# Altium footprint library EL.XXX.T01.PcbLib: 92 footprints (part 3 of 6)
Each footprint in its own frame and in the unit in brackets; x right, y up, seen from the top. Pads: shape width x height; smd on the part's side, far side on the other; paste and mask are expansions set on the pad; w line width, h text height; cw(c..) or ccw(c..) is an arc to the next point about the centre after c.
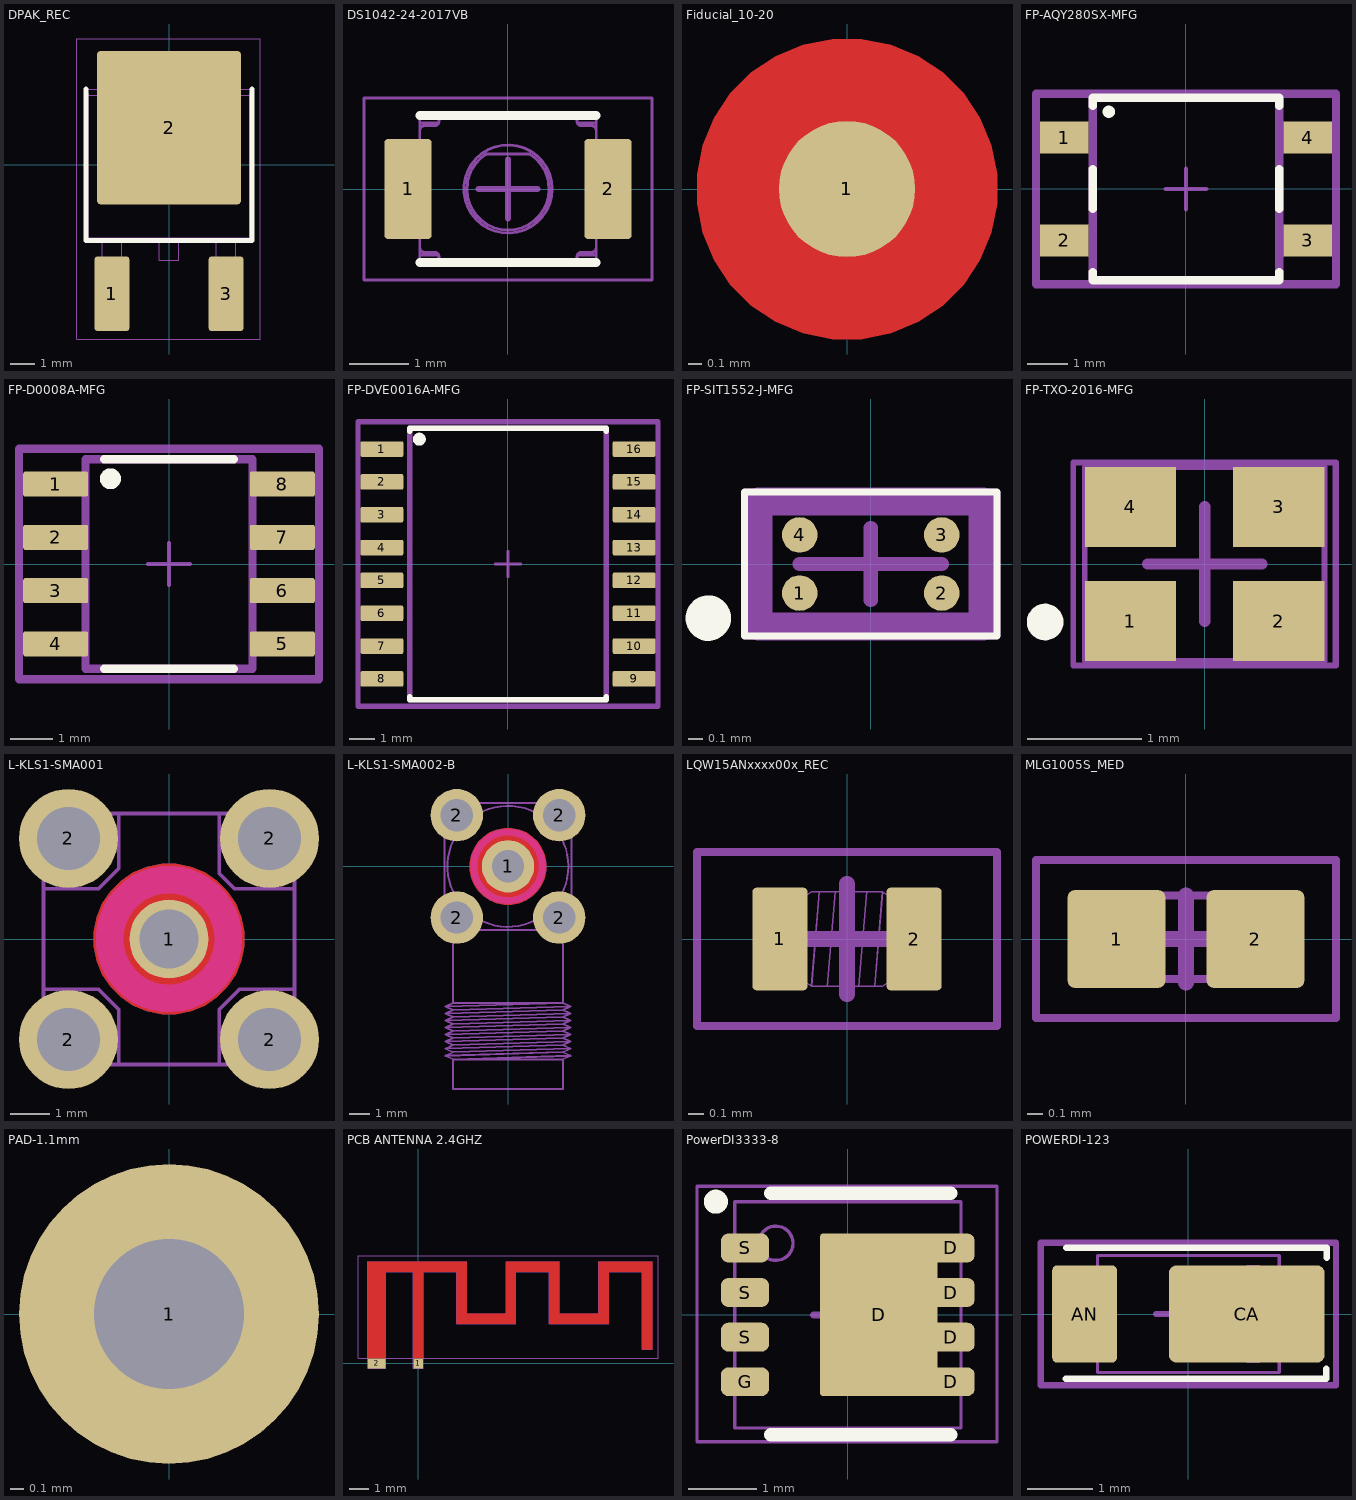
[diagram p2: the footprints below, top view; thin cyan lines are the x and y axes]

## DPAK_REC [mm]
pads (3):
  rrect15% 1.4x3 smd mask+0.05: 1(-2.3,-5.2) 3(2.3,-5.2)
  rrect5% 5.8x6.2 smd paste-3.1 mask+0.05: 2(0,1.5)
Top Overlay:
  lines w0.2: -3.35,3.05 -3.35,-3.05 3.35,-3.05 3.35,3.05
Top Paste:
  rectangle: 1.575,-1.4 2.725,0.2
  rectangle: 1.575,2.8 2.725,4.4
  rectangle: 1.575,0.5 2.725,2.5
  rectangle: 0.125,-1.4 1.275,0.2
  rectangle: 0.125,2.8 1.275,4.4
  rectangle: 0.125,0.5 1.275,2.5
  rectangle: -1.275,-1.4 -0.125,0.2
  rectangle: -1.275,2.8 -0.125,4.4
  rectangle: -1.275,0.5 -0.125,2.5
  rectangle: -2.725,-1.4 -1.575,0.2
  rectangle: -2.725,2.8 -1.575,4.4
  rectangle: -2.725,0.5 -1.575,2.5
Top Courtyard:
  lines w0.05: -3.725,-7.025 -3.725,5.075 3.675,5.075 3.675,-7.025 -3.725,-7.025
  lines w0.1: -0.5,0 0.5,0 ; 0,-0.5 0,0.5
Top Designator:
  text ".Designator" at -1.7,6.35 h0.5
Top Assembly:
  lines w0.05: -2.7,-3.05 -2.7,-4.25 -2.8,-4.25 -2.8,-5.15 -2.7,-5.15 -2.7,-5.95 -1.9,-5.95 -1.9,-5.15 -1.8,-5.15 -1.8,-4.25 -1.9,-4.25 -1.9,-3.05 ; -2.6,3.05 -2.6,3.4 -2.35,4.2 2.35,4.2 2.6,3.4 2.6,3.05 ; -0.4,-3.05 -0.4,-3.85 0.4,-3.85 0.4,-3.05 ; 1.9,-3.05 1.9,-4.25 1.8,-4.25 1.8,-5.15 1.9,-5.15 1.9,-5.95 2.7,-5.95 2.7,-5.15 2.8,-5.15 2.8,-4.25 2.7,-4.25 2.7,-3.05 ; -3.35,-3.05 -3.35,3.05 ; -3.35,-3.05 3.35,-3.05 ; -3.35,-3.05 -3.25,-2.95 ; -3.35,3.05 3.35,3.05 ; -3.35,3.05 -3.25,2.8 ; -3.25,-2.95 -3.25,2.8 ; -3.25,-2.95 3.25,-2.95 ; -3.25,2.8 3.25,2.8 ; 3.25,-2.95 3.25,2.8 ; 3.25,-2.95 3.35,-3.05 ; 3.25,2.8 3.35,3.05 ; 3.35,-3.05 3.35,3.05
  text "4" at -0.25,1.85 h0.7
  text "3" at 2.05,-2.6 h0.7
  text "1" at -2.4,-2.6 h0.7
Top Value:
  text ".Comment" at -1.7,5.725 h0.5
3D body "DPAK.STEP": height 2.3, standoff 0, extent -3.246,-5.55 3.247,3.95

## DS1042-24-2017VB [mm]
pads (2):
  rrect15% 0.8x1.7 smd mask+0.05: 1(-1.7,0) 2(1.7,0)
Top Overlay:
  lines w0.15: -1.5,-1.25 1.5,-1.25 ; -1.5,1.25 1.5,1.25
Top Courtyard:
  lines w0.05: -2.45,-1.55 -2.45,1.55 2.45,1.55 2.45,-1.55 -2.45,-1.55
  lines w0.1: -0.5,0 0.5,0 ; 0,-0.5 0,0.5
Top Designator:
  text ".Designator" at -1.7,2.3 h0.5
Top Assembly:
  circle w0.05: c0,0 r0.75
  lines w0.05: -1.5,-1.125 -1.2,-1.125 ; -1.5,-1 ccw(c-1.425,-1) -1.425,-1.075 -1.25,-1.075 cw(c-1.25,-1.15) -1.175,-1.15 -1.175,-1.25 ; -1.5,-0.7 -2,-0.7 -2,0.7 -1.5,0.7 ; -1.5,1 cw(c-1.425,1) -1.425,1.075 -1.25,1.075 ccw(c-1.25,1.15) -1.175,1.15 -1.175,1.25 ; -1.5,1.125 -1.2,1.125 ; 1.175,-1.25 1.175,-1.15 cw(c1.25,-1.15) 1.25,-1.075 1.425,-1.075 ccw(c1.425,-1) 1.5,-1 ; 1.175,1.25 1.175,1.15 ccw(c1.25,1.15) 1.25,1.075 1.425,1.075 cw(c1.425,1) 1.5,1 ; 1.2,-1.125 1.5,-1.125 ; 1.2,1.125 1.5,1.125 ; 1.5,-0.7 2,-0.7 2,0.7 1.5,0.7 ; -1.5,-1.25 -1.5,1.25 1.5,1.25 1.5,-1.25 -1.5,-1.25 ; -0.371,0.594 ccw(c0,0) 0.371,0.594 -0.371,0.594
Top Value:
  text ".Comment" at -1.7,1.7 h0.5
3D body "SW_TACT_DS1042-24-X-017-.STEP": height 1.6, standoff 0, extent -2,-1.25 2,1.25

## Fiducial_10-20 [mm]
pads (1):
  round 1 smd paste-1 mask+0.5: 1(0,0)
Top Layer:
  pour cut-out: -1.1,0 -1.1,-0.108 -1.058,-0.321 -0.975,-0.521 -0.854,-0.701 -0.701,-0.854 -0.521,-0.975 -0.321,-1.058 -0.108,-1.1 0,-1.1 0.108,-1.1 0.321,-1.058 0.521,-0.975 0.701,-0.854 0.854,-0.701 0.975,-0.521 1.058,-0.321 1.1,-0.108 1.1,0 1.1,0.108 1.058,0.321 0.975,0.521 0.854,0.701 0.701,0.854 0.521,0.975 0.321,1.058 0.108,1.1 0,1.1 -0.108,1.1 -0.321,1.058 -0.521,0.975 -0.701,0.854 -0.854,0.701 -0.975,0.521 -1.058,0.321 -1.1,0.108

## FP-AQY280SX-MFG [mm]
pads (4):
  rect 1.2x0.8 smd paste+0 mask+0: 1(-3,1.27) 2(-3,-1.27) 3(3,-1.27) 4(3,1.27)
Top Overlay:
  circle w0.152: c-1.905,1.905 r0.076
  lines w0.2: -2.3,-2.045 -2.3,-2.25 2.3,-2.25 2.3,-2.045 ; -2.3,-0.495 -2.3,0.495 ; -2.3,2.045 -2.3,2.25 2.3,2.25 2.3,2.045 ; 2.3,-0.495 2.3,0.495
Top 3D Body:
  lines w0.2: -2.3,-2.25 2.3,-2.25 2.3,2.25 -2.3,2.25 -2.3,-2.25
Top Courtyard:
  lines w0.2: -3.7,-2.35 3.7,-2.35 3.7,2.35 -3.7,2.35 -3.7,-2.35
Top Assembly:
  lines w0.2: -3.7,-2.35 -3.7,2.35 3.7,2.35 3.7,-2.35 -3.7,-2.35
  text ".Designator" at -4.699,-0.066 h1
Top Component Center:
  lines w0.1: -0.5,0 0.5,0 ; 0,-0.5 0,0.5
3D body "Relay_Panasonic_AQY280SX_eec.STEP": height 0.25, standoff 0, extent -3.7,-2.35 3.7,2.35

## FP-D0008A-MFG [mm]
pads (8):
  rrect17% 1.55x0.6 smd paste+0 mask+0: 1(-2.7,1.905) 2(-2.7,0.635) 3(-2.7,-0.635) 4(-2.7,-1.905) 5(2.7,-1.905) 6(2.7,-0.635) 7(2.7,0.635) 8(2.7,1.905)
Top Overlay:
  circle w0.25: c-1.397,2.032 r0.125
  lines w0.2: -1.55,-2.5 1.55,-2.5 ; -1.55,2.5 1.55,2.5
Top 3D Body:
  lines w0.2: -1.99,-2.5 1.99,-2.5 1.99,2.5 -1.99,2.5 -1.99,-2.5
Top Courtyard:
  lines w0.2: -3.575,-2.75 3.575,-2.75 3.575,2.75 -3.575,2.75 -3.575,-2.75
Top Assembly:
  lines w0.2: -3.575,-2.75 3.575,-2.75 3.575,2.75 -3.575,2.75 -3.575,-2.75
  text ".Designator" at 0,0.188 h1
Top Component Center:
  lines w0.1: -0.5,0 0.5,0 ; 0,-0.5 0,0.5
3D body "IC_Texas_Instruments_ISO1540DR_eec.STEP": height 0.25, standoff 0, extent -3.575,-2.75 3.575,2.75

## FP-DVE0016A-MFG [mm]
pads (16):
  rrect17% 1.65x0.6 smd paste+0 mask+0: 1(-4.875,4.445) 2(-4.875,3.175) 3(-4.875,1.905) 4(-4.875,0.635) 5(-4.875,-0.635) 6(-4.875,-1.905) 7(-4.875,-3.175) 8(-4.875,-4.445) 9(4.875,-4.445) 10(4.875,-3.175) 11(4.875,-1.905) 12(4.875,-0.635) 13(4.875,0.635) 14(4.875,1.905) 15(4.875,3.175) 16(4.875,4.445)
Top Overlay:
  circle w0.25: c-3.429,4.826 r0.125
  lines w0.2: -3.8,-5.12 -3.8,-5.25 3.8,-5.25 3.8,-5.12 ; -3.8,5.12 -3.8,5.25 3.8,5.25 3.8,5.12
Top 3D Body:
  lines w0.2: -3.8,-5.25 -3.8,5.25 3.8,5.25 3.8,-5.25 -3.8,-5.25
Top Courtyard:
  lines w0.2: -5.8,-5.5 -5.8,5.5 5.8,5.5 5.8,-5.5 -5.8,-5.5
Top Assembly:
  lines w0.2: -5.8,-5.5 -5.8,5.5 5.8,5.5 5.8,-5.5 -5.8,-5.5
  text ".Designator" at 0,0.188 h1
Top Component Center:
  lines w0.1: -0.5,0 0.5,0 ; 0,-0.5 0,0.5
3D body "IC_Texas_Instruments_UCC12040DVER_eec.STEP": height 0.25, standoff 0, extent -5.8,-5.5 5.8,5.5

## FP-SIT1552-J-MFG [mm]
pads (4):
  round 0.25 smd paste+0 mask-1000: 1(-0.5,-0.205) 2(0.5,-0.205) 3(0.5,0.205) 4(-0.5,0.205)
Top Overlay:
  circle w0.16: c-1.143,-0.381 r0.08
  lines w0.05: -0.889,-0.508 0.889,-0.508 0.889,0.508 -0.889,0.508 -0.889,-0.508
Top Solder:
  circle w0.175: c-0.5,-0.205 r0.088
  circle w0.175: c0.5,-0.205 r0.088
  circle w0.175: c-0.5,0.205 r0.088
  circle w0.175: c0.5,0.205 r0.088
Top 3D Body:
  lines w0.2: -0.79,-0.44 0.79,-0.44 0.79,0.44 -0.79,0.44 -0.79,-0.44
Top Courtyard:
  lines w0.05: -0.889,-0.508 -0.889,0.508 0.889,0.508 0.889,-0.508 -0.889,-0.508
Top Assembly:
  lines w0.05: -0.889,-0.508 -0.889,0.508 0.889,0.508 0.889,-0.508 -0.889,-0.508
  text ".Designator" at 0,0.188 h1
Top Component Center:
  lines w0.1: -0.5,0 0.5,0 ; 0,-0.254 0,0.254
3D body "Crys_SiTime_SIT1552AI-JE-DCC-32_768S_eec.STEP": height 0.25, standoff 0, extent -1.29,-0.94 1.29,0.94

## FP-TXO-2016-MFG [mm]
pads (4):
  rect 0.8x0.7 smd paste+0 mask+0: 1(-0.65,-0.5) 2(0.65,-0.5) 3(0.65,0.5) 4(-0.65,0.5)
Top Overlay:
  circle w0.16: c-1.397,-0.508 r0.08
Top 3D Body:
  lines w0.05: -1.05,-0.85 -1.05,0.85 1.05,0.85 1.05,-0.85 -1.05,-0.85
Top Courtyard:
  lines w0.05: -1.15,-0.889 -1.15,0.889 1.15,0.889 1.15,-0.889 -1.15,-0.889
Top Assembly:
  lines w0.05: -1.15,-0.889 -1.15,0.889 1.143,0.889 1.143,-0.889 -1.15,-0.889
  text ".Designator" at 0,0.188 h1
Top Component Center:
  lines w0.1: -0.5,0 0.5,0 ; 0,-0.5 0,0.5
3D body "Crys_ECS_ECS-TXO-2016-33-160-TR_eec.STEP": height 0.25, standoff 0, extent -1.15,-0.889 1.15,1.011

## L-KLS1-SMA001 [mm] "50Ohm SMA Connector, Vertical, Female, 5.08mm"
pads (5):
  round 2 hole 1.5: 1(0,0)
  round 2.5 hole 1.6: 2(-2.54,-2.54) 2(-2.54,2.54) 2(2.54,-2.54) 2(2.54,2.54)
Top Layer:
  pour cut-out: -1.9,0 -1.9,-0.187 -1.827,-0.554 -1.684,-0.9 -1.476,-1.211 -1.211,-1.476 -0.9,-1.684 -0.554,-1.827 -0.187,-1.9 0,-1.9 0.187,-1.9 0.554,-1.827 0.9,-1.684 1.211,-1.476 1.476,-1.211 1.684,-0.9 1.827,-0.554 1.9,-0.187 1.9,0 1.9,0.187 1.827,0.554 1.684,0.9 1.476,1.211 1.211,1.476 0.9,1.684 0.554,1.827 0.187,1.9 0,1.9 -0.187,1.9 -0.554,1.827 -0.9,1.684 -1.211,1.476 -1.476,1.211 -1.684,0.9 -1.827,0.554 -1.9,0.187
Top Layer keep-out:
  circle w0.7: c0,0 r1.5
Bottom Layer:
  pour cut-out: -1.9,0 -1.9,-0.187 -1.827,-0.554 -1.684,-0.9 -1.476,-1.211 -1.211,-1.476 -0.9,-1.684 -0.554,-1.827 -0.187,-1.9 0,-1.9 0.187,-1.9 0.554,-1.827 0.9,-1.684 1.211,-1.476 1.476,-1.211 1.684,-0.9 1.827,-0.554 1.9,-0.187 1.9,0 1.9,0.187 1.827,0.554 1.684,0.9 1.476,1.211 1.211,1.476 0.9,1.684 0.554,1.827 0.187,1.9 0,1.9 -0.187,1.9 -0.554,1.827 -0.9,1.684 -1.211,1.476 -1.476,1.211 -1.684,0.9 -1.827,0.554 -1.9,0.187
Bottom Layer keep-out:
  circle w0.7: c0,0 r1.5
Top Designator:
  text ".Designator" at -1.8,5.375 h0.5
Top Assembly:
  circle w0.1: c0,0 r1.403
  circle w0.1: c0,0 r0.6
  lines w0.1: -3.175,-1.27 -1.778,-1.27 -1.27,-1.778 -1.27,-3.175 ; -3.175,1.27 -1.778,1.27 -1.27,1.778 -1.27,3.175 ; 1.27,-3.175 1.27,-1.778 1.778,-1.27 3.175,-1.27 ; 1.27,3.175 1.27,1.651 1.651,1.27 3.175,1.27 ; -3.175,-3.175 3.175,-3.175 3.175,3.175 -3.175,3.175 -3.175,-3.175
Top Value:
  text ".Comment" at -1.825,4.75 h0.5
3D body "KLS1-SMA001.STEP": height 9.5, standoff -4, extent -3.5,-3.5 3.5,3.5

## L-KLS1-SMA002-B [mm] "50Ohm SMA Connector, Right Angle, Female, 5.08mm"
pads (5):
  round 2.6 hole 1.6 mask+0.05: 1(0,0) 2(-2.54,-2.54) 2(-2.54,2.54) 2(2.54,-2.54) 2(2.54,2.54)
Top Layer:
  pour cut-out: 0,-1.9 0.187,-1.9 0.554,-1.827 0.9,-1.684 1.211,-1.476 1.476,-1.211 1.684,-0.9 1.827,-0.554 1.9,-0.187 1.9,0 1.9,0.187 1.827,0.554 1.684,0.9 1.476,1.211 1.211,1.476 0.9,1.684 0.554,1.827 0.187,1.9 0,1.9 -0.187,1.9 -0.554,1.827 -0.9,1.684 -1.211,1.476 -1.476,1.211 -1.684,0.9 -1.827,0.554 -1.9,0.187 -1.9,0 -1.9,-0.187 -1.827,-0.554 -1.684,-0.9 -1.476,-1.211 -1.211,-1.476 -0.9,-1.684 -0.554,-1.827 -0.187,-1.9
Top Layer keep-out:
  circle w0.35: c0,0 r1.7
Bottom Layer:
  pour cut-out: 0,-1.9 0.187,-1.9 0.554,-1.827 0.9,-1.684 1.211,-1.476 1.476,-1.211 1.684,-0.9 1.827,-0.554 1.9,-0.187 1.9,0 1.9,0.187 1.827,0.554 1.684,0.9 1.476,1.211 1.211,1.476 0.9,1.684 0.554,1.827 0.187,1.9 0,1.9 -0.187,1.9 -0.554,1.827 -0.9,1.684 -1.211,1.476 -1.476,1.211 -1.684,0.9 -1.827,0.554 -1.9,0.187 -1.9,0 -1.9,-0.187 -1.827,-0.554 -1.684,-0.9 -1.476,-1.211 -1.211,-1.476 -0.9,-1.684 -0.554,-1.827 -0.187,-1.9
Bottom Layer keep-out:
  circle w0.35: c0,0 r1.7
Top Designator:
  text ".Designator" at -5.275,-1.85 h0.5
Top Assembly:
  circle w0.1: c0,0 r3
  lines w0.1: -2.725,-3.15 -2.725,-6.775 ; 2.725,-3.15 2.725,-6.775 ; -3.1,-9.4 -2.725,-9.575 ; -3.1,-9.4 -2.725,-9.225 ; -3.1,-9.4 2.725,-9.225 ; -3.1,-9.05 -2.725,-8.875 ; -3.1,-9.05 -2.725,-9.225 ; -3.1,-9.05 2.725,-8.875 ; -3.1,-8.7 -2.725,-8.525 ; -3.1,-8.7 -2.725,-8.875 ; -3.1,-8.7 2.725,-8.525 ; -3.1,-8.35 -2.725,-8.175 ; -3.1,-8.35 -2.725,-8.525 ; -3.1,-8.35 2.725,-8.175 ; -3.1,-8 -2.725,-7.825 ; -3.1,-8 -2.725,-8.175 ; -3.1,-8 2.725,-7.825 ; -3.1,-7.65 -2.725,-7.475 ; -3.1,-7.65 -2.725,-7.825 ; -3.1,-7.65 2.725,-7.475 ; -3.1,-7.3 -2.725,-7.475 ; -3.1,-7.3 2.725,-7.125 ; -3.1,-7.3 -2.725,-7.125 ; -3.1,-6.95 -2.725,-7.125 ; -3.1,-6.95 -2.725,-6.775 ; -3.1,-6.95 2.725,-6.775 ; -2.725,-9.575 3.1,-9.4 ; -2.725,-9.575 2.725,-9.575 ; -2.725,-9.575 -2.725,-11.05 2.725,-11.05 2.725,-9.575 ; -2.725,-9.225 3.1,-9.05 ; -2.725,-8.875 3.1,-8.7 ; -2.725,-8.525 3.1,-8.35 ; -2.725,-8.175 3.1,-8 ; -2.725,-7.825 3.1,-7.65 ; -2.725,-7.475 3.1,-7.3 ; -2.725,-7.125 3.1,-6.95 ; -2.725,-6.775 2.725,-6.775 ; 2.725,-9.575 3.1,-9.4 ; 2.725,-9.225 3.1,-9.05 ; 2.725,-9.225 3.1,-9.4 ; 2.725,-8.875 3.1,-8.7 ; 2.725,-8.875 3.1,-9.05 ; 2.725,-8.525 3.1,-8.35 ; 2.725,-8.525 3.1,-8.7 ; 2.725,-8.175 3.1,-8 ; 2.725,-8.175 3.1,-8.35 ; 2.725,-7.825 3.1,-7.65 ; 2.725,-7.825 3.1,-8 ; 2.725,-7.475 3.1,-7.3 ; 2.725,-7.475 3.1,-7.65 ; 2.725,-7.125 3.1,-7.3 ; 2.725,-7.125 3.1,-6.95 ; 2.725,-6.775 3.1,-6.95 ; -3.15,-2.95 ccw(c-2.95,-2.95) -2.95,-3.15 2.95,-3.15 ccw(c2.95,-2.95) 3.15,-2.95 3.15,2.95 ccw(c2.95,2.95) 2.95,3.15 -2.95,3.15 ccw(c-2.95,2.95) -3.15,2.95 -3.15,-2.95
Top Value:
  text ".Comment" at -4.625,-1.875 h0.5
3D body "SMA.stp": height 9.57, standoff -3.89, extent -3.15,-11.58 3.2,3.279

## LQW15ANxxxx00x_REC [mm]
pads (2):
  rrect15% 0.35x0.65 smd mask+0.05: 1(-0.425,0) 2(0.425,0)
Top Courtyard:
  lines w0.05: -0.95,-0.55 0.95,-0.55 0.95,0.55 -0.95,0.55 -0.95,-0.55
  lines w0.1: -0.35,0 0.35,0 ; 0,-0.35 0,0.35
Top Designator:
  text ".Designator" at -0.336,0.583 h0.5
Top Assembly:
  region: 0.3,-0.25 0.5,-0.25 0.5,0.25 0.3,0.25
  region: -0.5,-0.25 -0.3,-0.25 -0.3,0.25 -0.5,0.25
  lines w0.01: -0.175,0.3 -0.225,-0.3 ; -0.125,-0.3 -0.075,0.3 ; -0.025,-0.3 0.025,0.3 ; 0.075,-0.3 0.125,0.3 ; 0.175,-0.3 0.225,0.3 ; -0.225,-0.3 0.225,-0.3 0.3,-0.25 0.5,-0.25 0.5,0.25 0.3,0.25 0.225,0.3 ; -0.225,-0.3 -0.3,-0.25 -0.5,-0.25 -0.5,0.25 -0.3,0.25 -0.225,0.3 0.225,0.3
Top Value:
  text ".Comment" at 0.371,0.583 h0.5
3D body "LQW15.STEP": height 0.6, standoff 0, extent -0.55,-0.348 0.55,0.35

## MLG1005S_MED [mm]
pads (2):
  rrect15% 0.62x0.62 smd mask+0.05: 1(-0.44,0) 2(0.44,0)
Top Courtyard:
  lines w0.05: -0.95,-0.5 -0.95,0.5 0.95,0.5 0.95,-0.5 -0.95,-0.5
  lines w0.1: -0.275,0 0.275,0 ; 0,-0.275 0,0.275
Top Designator:
  text ".Designator" at 0.368,1.047 h0.5
Top Assembly:
  region: 0.525,0.275 0.255,0.275 0.255,-0.254 0.525,-0.254
  rectangle: -0.524,-0.254 -0.253,0.275
  lines w0.05: -0.525,-0.254 0.508,-0.254 0.508,0.275 -0.525,0.275 -0.525,-0.254
Top Value:
  text ".Comment" at 0.544,1.93 h0.5
3D body: height 0.55, standoff -0.01, extent 0.275,-0.275 0.525,0.275
3D body: height 0.55, standoff -0.01, extent -0.525,-0.275 -0.275,0.275
3D body: height 0.55, standoff -0.01, extent -0.275,-0.275 0.275,0.275

## PAD-1.1mm [mm]
pads (1):
  round 2.2 hole 1.1: 1(0,0)
Top Designator:
  text ".Designator" at -1.6,1.9 h0.5
Top Assembly:
  circle w0.1: c0,0 r0.8
  lines w0.1: -0.8,0 0.8,0 ; 0,-0.8 0,0.8
Top Value:
  text ".Comment" at -1.562,1.3 h0.5

## PCB ANTENNA 2.4GHZ [mm]
pads (2):
  rect 0.5x0.5 smd mask+0.05: 1(0,0)
  rect 0.9x0.5 smd mask+0.05: 2(-2.1,0)
Top Layer:
  region: 4.95,2.01 4.95,2.51 1.95,2.51 1.95,2.01
  region: 9.65,2.01 9.65,2.51 6.65,2.51 6.65,2.01
  region: 11.85,4.65 11.85,5.15 9.15,5.15 9.15,4.65
  region: 1.95,2.01 2.45,2.01 2.45,5.15 1.95,5.15
  region: 4.45,2.01 4.95,2.01 4.95,5.15 4.45,5.15
  region: -0.25,0.25 0.25,0.25 0.25,5.15 -0.25,5.15
  region: 6.65,2.01 7.15,2.01 7.15,5.15 6.65,5.15
  region: 9.15,2.01 9.65,2.01 9.65,5.15 9.15,5.15
  region: 11.35,0.71 11.85,0.71 11.85,5.15 11.35,5.15
  region: 2.45,4.65 2.45,5.15 -2.55,5.15 -2.55,4.65
  region: 7.15,4.65 7.15,5.15 4.45,5.15 4.45,4.65
  region: -2.55,0.25 -1.65,0.25 -1.65,5.15 -2.55,5.15
Top Designator:
  text ".Designator" at 12,-2.05 h0.5
Top Assembly:
  lines w0.025: -2.55,0.25 -3.05,0.25 -3.05,5.45 12.15,5.45 12.15,0.25 0.25,0.25 ; -1.65,0.25 -0.25,0.25 ; -2.55,-0.25 -1.65,-0.25 -1.65,4.65 -0.25,4.65 -0.25,-0.25 0.25,-0.25 0.25,4.65 1.95,4.65 1.95,2.01 4.95,2.01 4.95,4.65 6.65,4.65 6.65,2.01 9.65,2.01 9.65,4.65 11.35,4.65 11.35,0.71 11.85,0.71 11.85,5.15 9.15,5.15 9.15,2.51 7.15,2.51 7.15,5.15 4.45,5.15 4.45,2.51 2.45,2.51 2.45,5.15 -2.55,5.15 -2.55,-0.25
Top Value:
  text ".Comment" at 13,-2.05 h0.5
3D body "PCB antenna 2.4GHz.STEP": height 0.1, standoff 0, extent -2.55,-0.25 11.85,5.15

## PowerDI3333-8 [mm]
pads (9):
  rrect5% 1.71x2.37 smd mask+0.05: D(0.45,0)
  rrect50% 0.7x0.42 smd mask+0.05: D(1.5,-0.975) D(1.5,-0.325) D(1.5,0.325) D(1.5,0.975) G(-1.5,-0.975) S(-1.5,-0.325) S(-1.5,0.325) S(-1.5,0.975)
Top Overlay:
  circle w0.25: c-1.925,1.65 r0.05
  lines w0.2: -1.125,-1.75 1.5,-1.75 ; -1.125,1.775 1.5,1.775
Top Courtyard:
  lines w0.05: -2.2,-1.85 2.175,-1.85 2.175,1.875 -2.2,1.875 -2.2,-1.85
  lines w0.1: -0.5,0 0.5,0 ; 0,-0.5 0,0.5
Top Designator:
  text ".Designator" at -1.8,2.8 h0.5
Top Assembly:
  circle w0.05: c-1.05,1.044 r0.25
  lines w0.05: -1.65,-1.65 -1.65,1.65 1.65,1.65 1.65,-1.65 -1.65,-1.65
Top Value:
  text ".Comment" at -1.8,2.175 h0.5
3D body "PowerDI3333-8.STEP": height 0.8, standoff -0.01, extent -1.65,-1.65 1.65,1.65

## POWERDI-123 [mm]
pads (2):
  rrect15% 1x1.5 smd mask+0.05: AN(-1.6,0)
  rrect15% 2.4x1.5 smd mask+0.05: CA(0.9,0)
Top Overlay:
  lines w0.1: -1.888,-1 2.125,-1 2.125,-0.848 ; -1.882,1.021 2.132,1.021 2.132,0.869
Top Courtyard:
  lines w0.1: -0.5,0 0.5,0 ; 0,-0.5 0,0.5 ; -2.275,-1.1 2.275,-1.1 2.275,1.1 -2.275,1.1 -2.275,-1.1
Top Designator:
  text ".Designator" at -1.85,2.025 h0.5
Top Assembly:
  region: 0.9,0.75 0.9,-0.75 1.1,-0.75 1.1,0.75
  lines w0.05: -1.4,-0.5 -1.85,-0.5 -1.85,0.5 -1.4,0.5 ; 1.4,-0.5 1.85,-0.5 1.85,0.5 1.4,0.5 ; -1.4,-0.9 -1.4,0.9 1.4,0.9 1.4,-0.9 -1.4,-0.9
Top Value:
  text ".Comment" at -1.85,1.45 h0.5
3D body "POWERDI-123.STEP": height 1, standoff 0, extent -1.95,-0.965 1.95,0.965